# Altium schematic symbol library LDOs.SchLib: 4 symbols
Pins are listed as number, name and electrical type; pins without a type are passive.

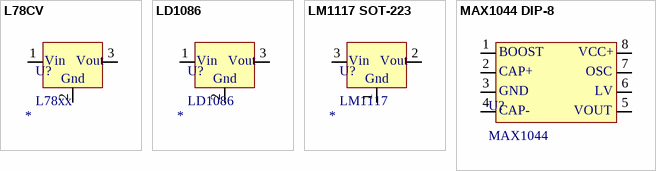
[diagram p0: symbols L78CV to MAX1044 DIP-8]

## L78CV
designator U?, comment L78xx
L78 Regulator TO-220 THT Package; Type: Regulator; Package Type: THT; Package: TO-220; Output voltage: *
footprint TO-220 V (TO-220 THT package vertical orientation)
footprint TO-220 H (TO-220 THT package horizontal orientation); pin to pad 2>2+4
pins: 1, 2, 3
text: Vin; Vout; Gnd

## LD1086
designator U?
LD1086 Regulator TO-220 THT Package; Type: Regulator; Package Type: THT; Package: TO-220; Output voltage: *
footprint TO-220 V (TO-220 THT package vertical orientation)
footprint TO-220 H (TO-220 THT package horizontal orientation); pin to pad 3>3+4
pins: 1, 2, 3
text: Vin; Vout; Gnd

## LM1117 SOT-223
designator U?, comment LM1117
LM1117 Regulator SOT223 Package; Type: Regulator; Package Type: SMD; Package: SOT223; Output voltage: *
footprint SOT223 (SOT223 SMD package); pin to pad 2>2+4
pins: 1, 2, 3
text: Vin; Vout; Gnd

## MAX1044 DIP-8
designator U?, comment MAX1044
MAX1044  Voltage Converter DIP-8 Package; Type: Charge Pump; Package Type: THT; Package: DIP-8
footprint DIP-8 socket (Socket for DIP-8 ICs)
footprint DIP-8 (DIP-8 THT package)
pins: 1, 2, 3, 4, 5, 6, 7, 8
text: BOOST; VCC+; CAP+; OSC; GND; LV; CAP-; VOUT